# EAGLE library part 736-408 (library con-wago_736)
Serie 736, Doppelstock-Klemmenleiste für Leiterplatten 2 Lötstifte um das halbe Rastermaß versetzt / Series 736, Double-deck PCB terminal strip 2 solder pins staggered by half the pin spacing Polzahl / Pole No.: 8 Rastermaß / Pitch: 5.08 mm Bemessungsspannung / Rated Voltage: 320 V Nennstrom / Nominal Current: 21 A Leiterquerschnitt / Conductor Size: 0.08 - 2.5 mm² Anschlusstechnik / Connection Technology: CAGE CLAMP® Lötstiftlänge: / Solder Pin Length: 4 mm Leitereinführung (zur Platine) / Conductor entry angle (to PCB): 45 ° Farbe / Color: orange / orange Stand: 01.01.2012. Die jeweils aktuellen Daten zu diesem Artikel finden Sie in unserem Produktkatalog, den Sie unter www.wago.com einsehen können. As of: 01/01/2012. Please find the newest data for this article in our product catalogue, which can be viewed under www.wago.com.
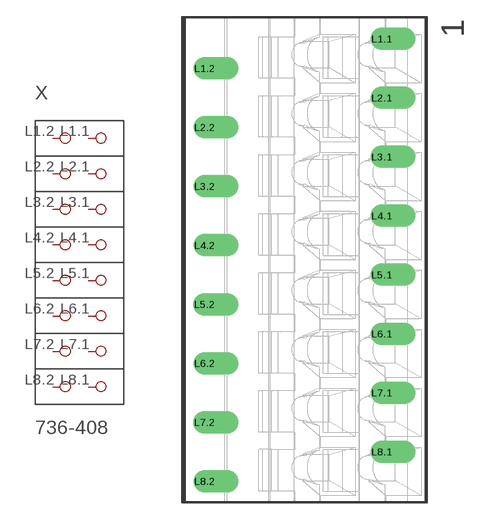
[diagram p46: symbol with the pads of P-736-408; footprint P-736-408]

Designator prefix X

## 736-408  [P-736-408]
L1.1  P1.1
L1.2  P1.2
L2.1  P2.1
L2.2  P2.2
L3.1  P3.1
L3.2  P3.2
L4.1  P4.1
L4.2  P4.2
L5.1  P5.1
L5.2  P5.2
L6.1  P6.1
L6.2  P6.2
L7.1  P7.1
L7.2  P7.2
L8.1  P8.1
L8.2  P8.2

## Footprint P-736-408 (pad centres in mm)
drill 1.3 offset: L1.1 6.64,19.03; L1.2 -8.6,16.49; L2.1 6.64,13.95; L2.2 -8.6,11.41; L3.1 6.64,8.87; L3.2 -8.6,6.33; L4.1 6.64,3.79; L4.2 -8.6,1.25; L5.1 6.64,-1.29; L5.2 -8.61,-3.83; L6.1 6.64,-6.37; L6.2 -8.6,-8.91; L7.1 6.64,-11.45; L7.2 -8.61,-13.99; L8.1 6.64,-16.53; L8.2 -8.6,-19.07